# EAGLE library part L297D (library ST Microelectronics)
STEPPER MOTOR CONTROLLERS
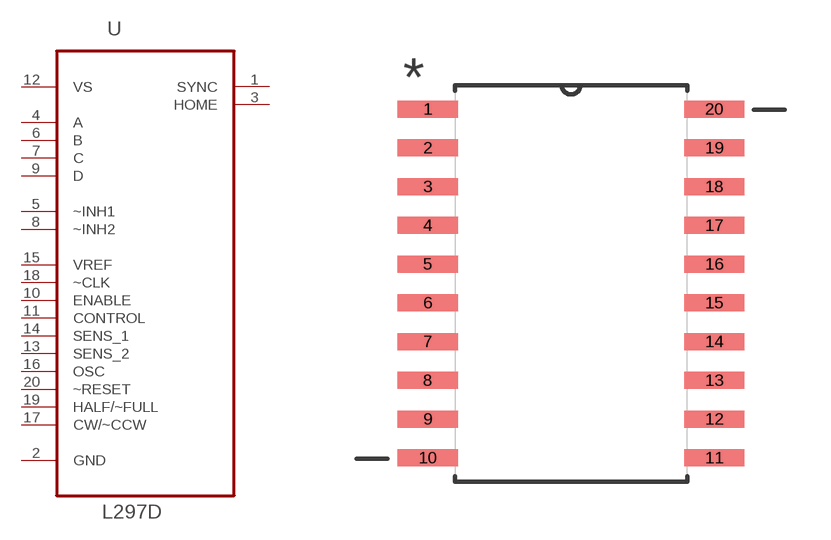
[diagram p31: symbol with the pads of SOIC127P1032X265-20N; footprint SOIC127P1032X265-20N]

Designator prefix U

## L297D (MPN: L297D; OC_FARNELL: 1467714; OC_NEWARK: 89K0738; PACKAGE: SOICW-20; SUPPLIER: STMICROELECTRONICS)  [SOIC127P1032X265-20N]
1  SYNC  out
2  GND  pas
3  HOME  out
4  A  in
5  ~INH1  in
6  B  in
7  C  in
8  ~INH2  in
9  D  in
10  ENABLE  in
11  CONTROL  in
12  VS  pwr
13  SENS_2  in
14  SENS_1  in
15  VREF  in
16  OSC  in
17  CW/~CCW  in
18  ~CLK  in
19  HALF/~FULL  in
20  ~RESET  in

## Footprint SOIC127P1032X265-20N (pad centres in mm)
smd 1.981 x 0.559: 1 -4.699,5.715; 2 -4.699,4.445; 3 -4.699,3.175; 4 -4.699,1.905; 5 -4.699,0.635; 6 -4.699,-0.635; 7 -4.699,-1.905; 8 -4.699,-3.175; 9 -4.699,-4.445; 10 -4.699,-5.715; 11 4.699,-5.715; 12 4.699,-4.445; 13 4.699,-3.175; 14 4.699,-1.905; 15 4.699,-0.635; 16 4.699,0.635; 17 4.699,1.905; 18 4.699,3.175; 19 4.699,4.445; 20 4.699,5.715